# Altium schematic symbol library CRCW080540K0FKEA.SchLib: 2 symbols
Pins are listed as number, name and electrical type; pins without a type are passive.

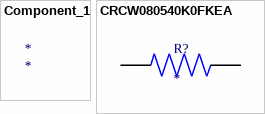
[diagram p0: symbols Component_1 to CRCW080540K0FKEA]

## Component_1
designator *

## CRCW080540K0FKEA
designator R?
RES THKFLM D12/0805 40K OHM 1% 100 ET1 E3 SMD; MP: CRCW080540K0FKEA; MF: {'manufacturer': u'Vishay Dale'}; Availability: Unavailable; Package: None; Price: None; Value: *
footprint RESC2012X50N
pins: 1, 2